# Altium schematic symbol library MAX1672.Schlib: 1 symbol
Pins are listed as number, name and electrical type; pins without a type are passive.

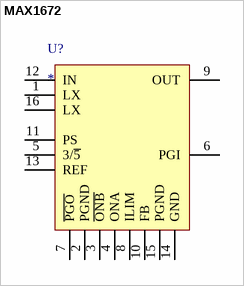
[diagram p0: symbol MAX1672]

## MAX1672
designator U?
pins: 1 LX, 2 PGND, 3 ~{ONB}, 4 ONA, 5 3/~{5}, 6 PGI, 7 ~{PGO}, 8 ILIM, 9 OUT, 10 FB, 11 PS, 12 IN, 13 REF, 14 GND, 15 PGND, 16 LX